# EAGLE library part LT1641 (library wheat)
HOTSWAP CONTROLLER, LT1641
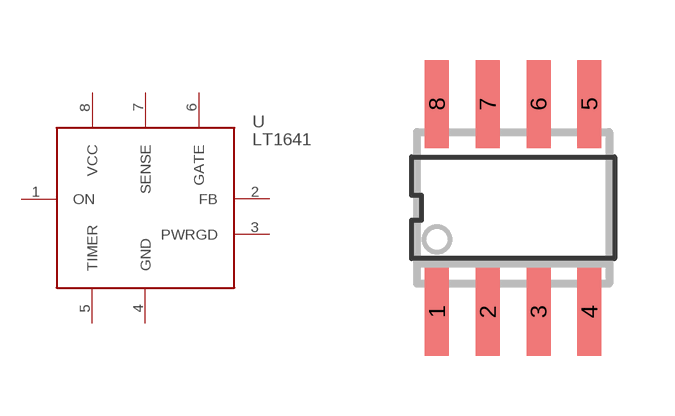
[diagram p50: symbol with the pads of SO8; footprint SO8]

Designator prefix U

## LT1641A  [SO8]
1  ON
2  FB
3  PWRGD
4  GND
5  TIMER
6  GATE
7  SENSE
8  VCC

## Footprint SO8 (pad centres in mm)
SO8
smd 0.6 x 2.2: 1 -1.905,-2.6; 2 -0.635,-2.6; 3 0.635,-2.6; 4 1.905,-2.6; 5 1.905,2.6; 6 0.635,2.6; 7 -0.635,2.6; 8 -1.905,2.6